# EAGLE library part SILABSDEBUG (library 3D_MIG_Controller)
AVR 10-pin ICSP Header This is the standard AVR In Circuit Serial Programming header. Minimal, but includes pin one indicator. Works with standard Olimex programmers. SparkFun Products: 2x5 AVR ICSP Male Header <https://www.sparkfun.com/products/778> - PTH 2x5 Pin Shrouded Header <https://www.sparkfun.com/products/8506> - PTH2
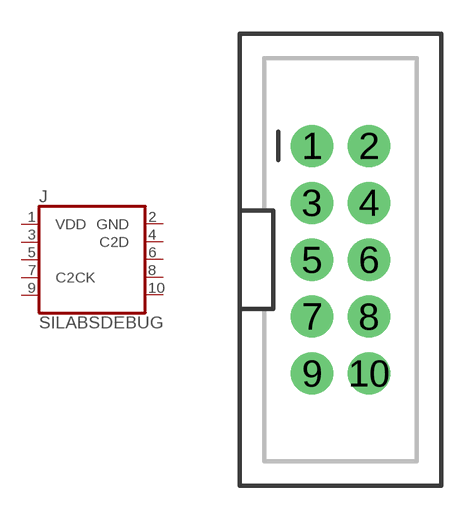
[diagram p5: symbol with the pads of 2X5-SHROUDED; footprint 2X5-SHROUDED]

Designator prefix J

## SILABSDEBUG  [2X5-SHROUDED]
1  VDD  pas
2  GND  pas
3  NC  pas
4  C2D  pas
5  5  pas
6  6  pas
7  C2CK  pas
8  8  pas
9  9  pas
10  10  pas

## Footprint 2X5-SHROUDED (pad centres in mm)
Plated Through Hole - 2x5 Shrouded Header Specifications: Pin count:10 Pin pitch:0.1" Datasheet referenced for footprint <https://www.sparkfun.com/datasheets/Prototyping/Shrouded-10pin.pdf> Example device(s): CONN_05x2
drill 1.2 pad 1.88: 1 -1.27,5.08; 2 1.27,5.08; 3 -1.27,2.54; 4 1.27,2.54; 5 -1.27,0; 6 1.27,0; 7 -1.27,-2.54; 8 1.27,-2.54; 9 -1.27,-5.08; 10 1.27,-5.08